# EAGLE library part LM3S601-IQN50 (library luminary-micro)
LM3S601 microcontroller 50-MHz operation 32 KB single-cycle flash 8 KB single-cycle SRAM Quadrature Encoder Interface (QEI)
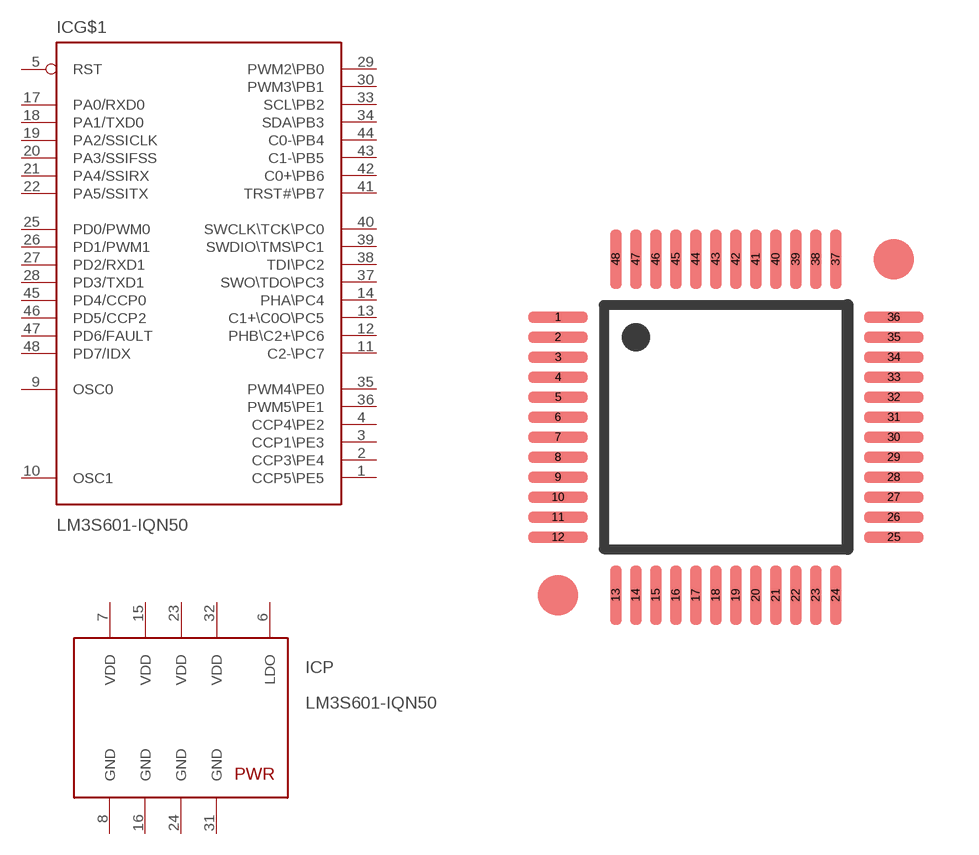
[diagram p7: symbol with the pads of LQFP48; footprint LQFP48]

Designator prefix IC; gates G$1=LM3S601 P=POWER

## LM3S601-IQN50  [LQFP48]
1  G$1:CCP5\PE5
2  G$1:CCP3\PE4
3  G$1:CCP1\PE3
4  G$1:CCP4\PE2
5  G$1:RST  in
6  P:LDO  sup
7  P:VDD  pwr
8  P:GND  pwr
9  G$1:OSC0  in
10  G$1:OSC1  out
11  G$1:C2-\PC7
12  G$1:PHB\C2+\PC6
13  G$1:C1+\C0O\PC5
14  G$1:PHA\PC4
15  P:VDD  pwr
16  P:GND  pwr
17  G$1:PA0/RXD0
18  G$1:PA1/TXD0
19  G$1:PA2/SSICLK
20  G$1:PA3/SSIFSS
21  G$1:PA4/SSIRX
22  G$1:PA5/SSITX
23  P:VDD  pwr
24  P:GND  pwr
25  G$1:PD0/PWM0
26  G$1:PD1/PWM1
27  G$1:PD2/RXD1
28  G$1:PD3/TXD1
29  G$1:PWM2\PB0
30  G$1:PWM3\PB1
31  P:GND  pwr
32  P:VDD  pwr
33  G$1:SCL\PB2
34  G$1:SDA\PB3
35  G$1:PWM4\PE0
36  G$1:PWM5\PE1
37  G$1:SWO\TDO\PC3
38  G$1:TDI\PC2
39  G$1:SWDIO\TMS\PC1
40  G$1:SWCLK\TCK\PC0
41  G$1:TRST#\PB7
42  G$1:C0+\PB6
43  G$1:C1-\PB5
44  G$1:C0-\PB4
45  G$1:PD4/CCP0
46  G$1:PD5/CCP2
47  G$1:PD6/FAULT
48  G$1:PD7/IDX

## Footprint LQFP48 (pad centres in mm)
48-Pin LQFP Package IPC7351 TSQFP50P900X900X160-48N
smd 1.5 x 0.3: 1 -4.2,2.75; 2 -4.2,2.25; 3 -4.2,1.75; 4 -4.2,1.25; 5 -4.2,0.75; 6 -4.2,0.25; 7 -4.2,-0.25; 8 -4.2,-0.75; 9 -4.2,-1.25; 10 -4.2,-1.75; 11 -4.2,-2.25; 12 -4.2,-2.75; 25 4.2,-2.75; 26 4.2,-2.25; 27 4.2,-1.75; 28 4.2,-1.25; 29 4.2,-0.75; 30 4.2,-0.25; 31 4.2,0.25; 32 4.2,0.75; 33 4.2,1.25; 34 4.2,1.75; 35 4.2,2.25; 36 4.2,2.75
smd 0.3 x 1.5: 13 -2.75,-4.2; 14 -2.25,-4.2; 15 -1.75,-4.2; 16 -1.25,-4.2; 17 -0.75,-4.2; 18 -0.25,-4.2; 19 0.25,-4.2; 20 0.75,-4.2; 21 1.25,-4.2; 22 1.75,-4.2; 23 2.25,-4.2; 24 2.75,-4.2; 37 2.75,4.2; 38 2.25,4.2; 39 1.75,4.2; 40 1.25,4.2; 41 0.75,4.2; 42 0.25,4.2; 43 -0.25,4.2; 44 -0.75,4.2; 45 -1.25,4.2; 46 -1.75,4.2; 47 -2.25,4.2; 48 -2.75,4.2